# Altium integrated library NSC Amplifier.IntLib: 1615 symbols (part 40 of 44)
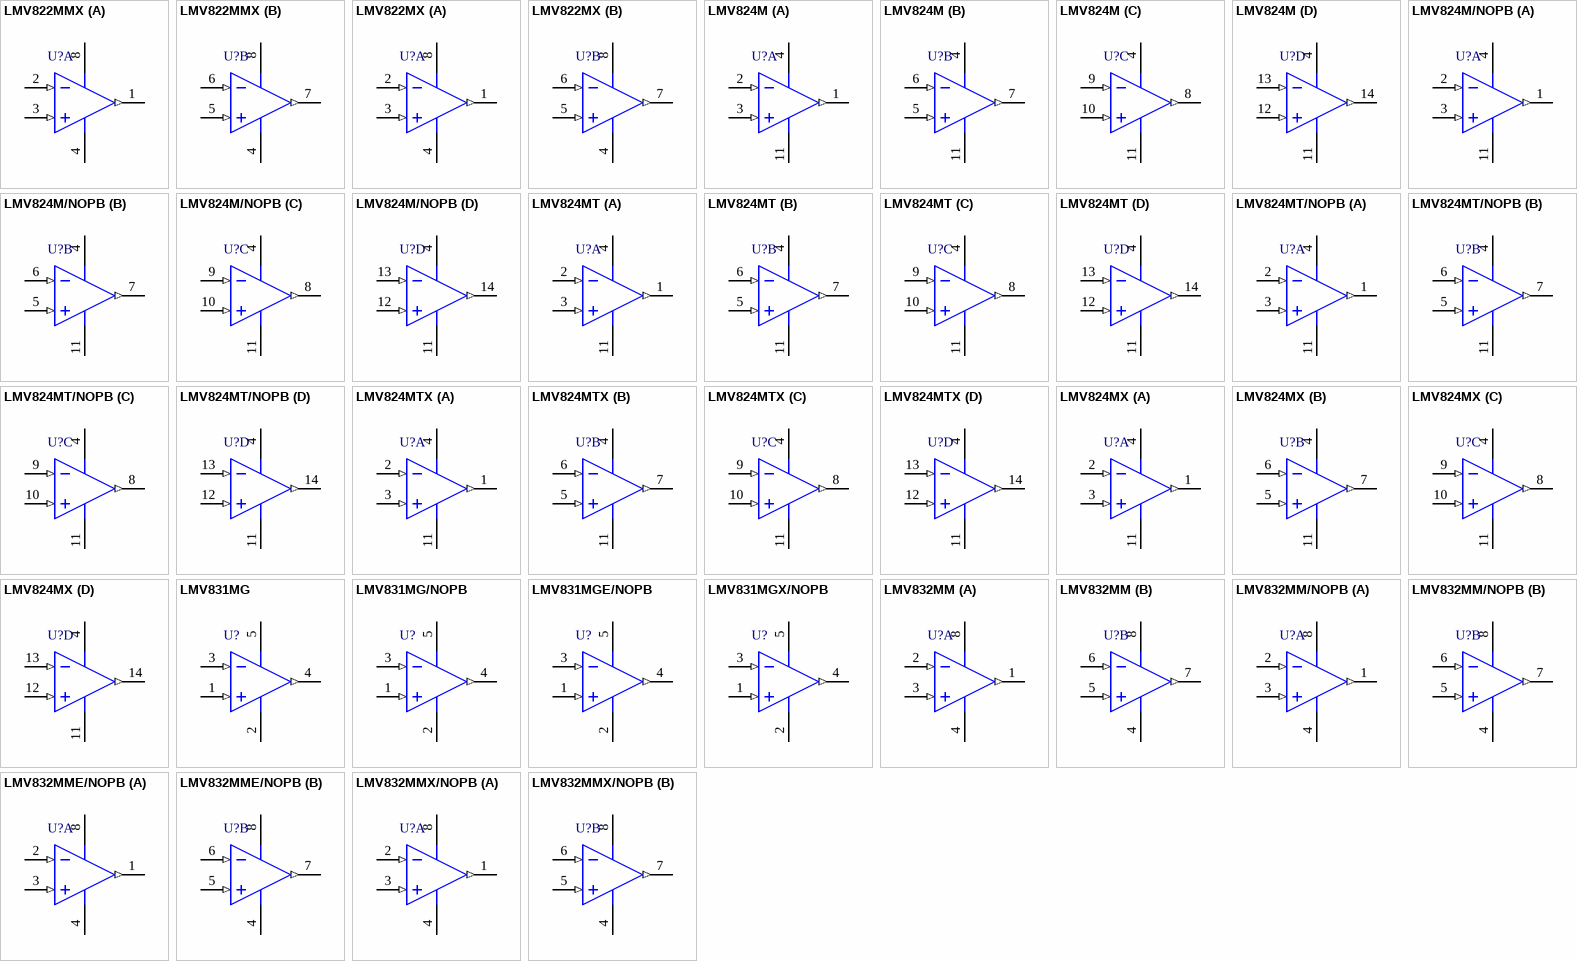
[diagram p121: symbols LMV822MMX to LMV832MMX/NOPB]

## LMV831MG
designator U?
Single 3.3 MHz Low Power CMOS, EMI Hardened Operational Amplifier, 5-pin SC-70; PartNumber: LMV831; Manufacturer: National Semiconductor; PackageTopMarking: AFA*XTT; PowerWise: Y; CompType: Amplifiers; Published: 4-Dec-2008; DatasheetVersion: Oct-2008; PackageVersion: revD, Jun-2007; PackageReference: MAA05A; Publisher: Altium Limited; PackageDescription: Molded SC-70, 2 x 1.25 x .9mm, 5 Lead, 0.65mm Pitch; Supplier 1: Farnell; Supplier Part Number 1: 1667426; RoHS: Y; PinCount: 5; Code_JEITA: SC-88A; Code_JEDEC: MO-203-AA; Code_IPC: SOT353-5; ComponentLink1Description: LMV831 Datasheet; ComponentLink1URL: http://www.national.com/ds/LM/LMV831.pdf; ComponentLink2Description: LMV831 Web Page; ComponentLink2URL: http://www.national.com/pf/LM/LMV831.html; ComponentLink3Description: MAA05A Package Page; ComponentLink3URL: http://www.national.com/packaging/folders/maa05a.html
footprint MAA05A_N (SOT353, 5-Leads, Body 2x1.3mm, Pitch 0.65mm, Lead Span 2.1mm, IPC Medium Density)
footprint MAA05A_L (SOT353, 5-Leads, Body 2x1.3mm, Pitch 0.65mm, Lead Span 2.1mm, IPC High Density)
footprint MAA05A_M (SOT353, 5-Leads, Body 2x1.3mm, Pitch 0.65mm, Lead Span 2.1mm, IPC Low Density)
pins: 1 IN+ (in), 2 V- (power), 3 IN- (in), 4 OUT (out), 5 V+ (power)

## LMV831MG/NOPB
designator U?
Single 3.3 MHz Low Power CMOS, EMI Hardened Operational Amplifier, 5-pin SC-70, Pb-Free; PartNumber: LMV831MG/NOPB; Manufacturer: National Semiconductor; PackageTopMarking: AFA*XTT; PowerWise: Y; CompType: Amplifiers; Published: 1-Mar-2010; DatasheetVersion: Oct-2008; PackageVersion: revD, Jun-2007; PackageReference: MAA05A; Publisher: Altium Limited; PackageDescription: Molded SC-70, 2 x 1.25 x .9mm, 5 Lead, 0.65mm Pitch; Supplier 1: Digi-Key; Supplier Part Number 1: LMV831MG-ND; RoHS: Y; PinCount: 5; Code_JEITA: SC-88A; Code_JEDEC: MO-203-AA; Code_IPC: SOT353-5; ComponentLink1Description: LMV831 Datasheet; ComponentLink1URL: http://www.national.com/ds/LM/LMV831.pdf; ComponentLink2Description: LMV831 Web Page; ComponentLink2URL: http://www.national.com/pf/LM/LMV831.html; ComponentLink3Description: MAA05A Package Page; ComponentLink3URL: http://www.national.com/packaging/folders/maa05a.html
footprint MAA05A_N (SOT353, 5-Leads, Body 2x1.3mm, Pitch 0.65mm, Lead Span 2.1mm, IPC Medium Density)
footprint MAA05A_L (SOT353, 5-Leads, Body 2x1.3mm, Pitch 0.65mm, Lead Span 2.1mm, IPC High Density)
footprint MAA05A_M (SOT353, 5-Leads, Body 2x1.3mm, Pitch 0.65mm, Lead Span 2.1mm, IPC Low Density)
simulation model LMV831 (SUBCKT)
pins: 1 IN+ (in), 2 V- (power), 3 IN- (in), 4 OUT (out), 5 V+ (power)

## LMV831MGE/NOPB
designator U?
Single 3.3 MHz Low Power CMOS, EMI Hardened Operational Amplifier, 5-pin SC-70, Pb-Free; PartNumber: LMV831MGE/NOPB; Manufacturer: National Semiconductor; PackageTopMarking: AFA*XTT; PowerWise: Y; CompType: Amplifiers; Published: 1-Mar-2010; DatasheetVersion: Oct-2008; PackageVersion: revD, Jun-2007; PackageReference: MAA05A; Publisher: Altium Limited; PackageDescription: Molded SC-70, 2 x 1.25 x .9mm, 5 Lead, 0.65mm Pitch; Supplier 1: Digi-Key; Supplier Part Number 1: LMV831MGETR-ND; Supplier 2: Digi-Key; Supplier Part Number 2: LMV831MGECT-ND; Supplier 3: Digi-Key; Supplier Part Number 3: LMV831MGEDKR-ND; Supplier 4: Farnell; Supplier Part Number 4: 1685415; RoHS: Y; PinCount: 5; Code_JEITA: SC-88A; Code_JEDEC: MO-203-AA; Code_IPC: SOT353-5; ComponentLink1Description: LMV831 Datasheet; ComponentLink1URL: http://www.national.com/ds/LM/LMV831.pdf; ComponentLink2Description: LMV831 Web Page; ComponentLink2URL: http://www.national.com/pf/LM/LMV831.html; ComponentLink3Description: MAA05A Package Page; ComponentLink3URL: http://www.national.com/packaging/folders/maa05a.html
footprint MAA05A_N (SOT353, 5-Leads, Body 2x1.3mm, Pitch 0.65mm, Lead Span 2.1mm, IPC Medium Density)
footprint MAA05A_L (SOT353, 5-Leads, Body 2x1.3mm, Pitch 0.65mm, Lead Span 2.1mm, IPC High Density)
footprint MAA05A_M (SOT353, 5-Leads, Body 2x1.3mm, Pitch 0.65mm, Lead Span 2.1mm, IPC Low Density)
simulation model LMV831 (SUBCKT)
pins: 1 IN+ (in), 2 V- (power), 3 IN- (in), 4 OUT (out), 5 V+ (power)

## LMV831MGX/NOPB
designator U?
Single 3.3 MHz Low Power CMOS, EMI Hardened Operational Amplifier, 5-pin SC-70, Pb-Free; PartNumber: LMV831MGX/NOPB; Manufacturer: National Semiconductor; PackageTopMarking: AFA*XTT; PowerWise: Y; CompType: Amplifiers; Published: 1-Mar-2010; DatasheetVersion: Oct-2008; PackageVersion: revD, Jun-2007; PackageReference: MAA05A; Publisher: Altium Limited; PackageDescription: Molded SC-70, 2 x 1.25 x .9mm, 5 Lead, 0.65mm Pitch; Supplier 1: Digi-Key; Supplier Part Number 1: LMV831MGX-ND; RoHS: Y; PinCount: 5; Code_JEITA: SC-88A; Code_JEDEC: MO-203-AA; Code_IPC: SOT353-5; ComponentLink1Description: LMV831 Datasheet; ComponentLink1URL: http://www.national.com/ds/LM/LMV831.pdf; ComponentLink2Description: LMV831 Web Page; ComponentLink2URL: http://www.national.com/pf/LM/LMV831.html; ComponentLink3Description: MAA05A Package Page; ComponentLink3URL: http://www.national.com/packaging/folders/maa05a.html
footprint MAA05A_N (SOT353, 5-Leads, Body 2x1.3mm, Pitch 0.65mm, Lead Span 2.1mm, IPC Medium Density)
footprint MAA05A_L (SOT353, 5-Leads, Body 2x1.3mm, Pitch 0.65mm, Lead Span 2.1mm, IPC High Density)
footprint MAA05A_M (SOT353, 5-Leads, Body 2x1.3mm, Pitch 0.65mm, Lead Span 2.1mm, IPC Low Density)
simulation model LMV831 (SUBCKT)
pins: 1 IN+ (in), 2 V- (power), 3 IN- (in), 4 OUT (out), 5 V+ (power)

## LMV832MM
designator U?
Dual 3.3 MHz Low Power CMOS, EMI Hardened Operational Amplifier, 8-pin Mini SOIC; PartNumber: LMV832; Manufacturer: National Semiconductor; PackageTopMarking: ZXTT*AU5A; PowerWise: Y; CompType: Amplifiers; Published: 4-Dec-2008; DatasheetVersion: Oct-2008; PackageVersion: revF, Apr-2008; PackageReference: MUA08A; Publisher: Altium Limited; PackageDescription: MINI SOIC, .118 x .118 x .034in, 8 Lead, .0256in Pitch; Supplier 1: Farnell; Supplier Part Number 1: 1667429; RoHS: Y; PinCount: 8; Code_JEDEC: MO-187-AA; ComponentLink1Description: LMV832 Datasheet; ComponentLink1URL: http://www.national.com/ds/LM/LMV832.pdf; ComponentLink2Description: LMV832 Web Page; ComponentLink2URL: http://www.national.com/pf/LM/LMV832.html; ComponentLink3Description: MUA08A Package Page; ComponentLink3URL: http://www.national.com/packaging/folders/mua08a.html
footprint MUA08A_N (TSOP, 8-Leads, Body 3x3mm, Pitch 0.65mm, IPC Medium Density)
footprint MUA08A_L (TSOP, 8-Leads, Body 3x3mm, Pitch 0.65mm, IPC High Density)
footprint MUA08A_M (TSOP, 8-Leads, Body 3x3mm, Pitch 0.65mm, IPC Low Density)
pins on every part: 4 V- (power), 8 V+ (power)
part A pins: 1 OUTA (out), 2 INA- (in), 3 INA+ (in)
part B pins: 5 INB+ (in), 6 INB- (in), 7 OUTB (out)

## LMV832MM/NOPB
designator U?
Dual 3.3 MHz Low Power CMOS, EMI Hardened Operational Amplifier, 8-pin Mini SOIC, Pb-Free; PartNumber: LMV832MM/NOPB; Manufacturer: National Semiconductor; PackageTopMarking: ZXTT*AU5A; PowerWise: Y; CompType: Amplifiers; Published: 1-Mar-2010; DatasheetVersion: Oct-2008; PackageVersion: revF, Apr-2008; PackageReference: MUA08A; Publisher: Altium Limited; PackageDescription: MINI SOIC, .118 x .118 x .034in, 8 Lead, .0256in Pitch; Supplier 1: Digi-Key; Supplier Part Number 1: LMV832MM-ND; RoHS: Y; PinCount: 8; Code_JEDEC: MO-187-AA; ComponentLink1Description: LMV832 Datasheet; ComponentLink1URL: http://www.national.com/ds/LM/LMV832.pdf; ComponentLink2Description: LMV832 Web Page; ComponentLink2URL: http://www.national.com/pf/LM/LMV832.html; ComponentLink3Description: MUA08A Package Page; ComponentLink3URL: http://www.national.com/packaging/folders/mua08a.html
footprint MUA08A_N (TSOP, 8-Leads, Body 3x3mm, Pitch 0.65mm, IPC Medium Density)
footprint MUA08A_L (TSOP, 8-Leads, Body 3x3mm, Pitch 0.65mm, IPC High Density)
footprint MUA08A_M (TSOP, 8-Leads, Body 3x3mm, Pitch 0.65mm, IPC Low Density)
simulation model LMV832 (SUBCKT)
pins on every part: 4 V- (power), 8 V+ (power)
part A pins: 1 OUTA (out), 2 INA- (in), 3 INA+ (in)
part B pins: 5 INB+ (in), 6 INB- (in), 7 OUTB (out)

## LMV832MME/NOPB
designator U?
Dual 3.3 MHz Low Power CMOS, EMI Hardened Operational Amplifier, 8-pin Mini SOIC, Pb-Free; PartNumber: LMV832MME/NOPB; Manufacturer: National Semiconductor; PackageTopMarking: ZXTT*AU5A; PowerWise: Y; CompType: Amplifiers; Published: 1-Mar-2010; DatasheetVersion: Oct-2008; PackageVersion: revF, Apr-2008; PackageReference: MUA08A; Publisher: Altium Limited; PackageDescription: MINI SOIC, .118 x .118 x .034in, 8 Lead, .0256in Pitch; Supplier 1: Digi-Key; Supplier Part Number 1: LMV832MMETR-ND; Supplier 2: Digi-Key; Supplier Part Number 2: LMV832MMECT-ND; Supplier 3: Digi-Key; Supplier Part Number 3: LMV832MMEDKR-ND; RoHS: Y; PinCount: 8; Code_JEDEC: MO-187-AA; ComponentLink1Description: LMV832 Datasheet; ComponentLink1URL: http://www.national.com/ds/LM/LMV832.pdf; ComponentLink2Description: LMV832 Web Page; ComponentLink2URL: http://www.national.com/pf/LM/LMV832.html; ComponentLink3Description: MUA08A Package Page; ComponentLink3URL: http://www.national.com/packaging/folders/mua08a.html
footprint MUA08A_N (TSOP, 8-Leads, Body 3x3mm, Pitch 0.65mm, IPC Medium Density)
footprint MUA08A_L (TSOP, 8-Leads, Body 3x3mm, Pitch 0.65mm, IPC High Density)
footprint MUA08A_M (TSOP, 8-Leads, Body 3x3mm, Pitch 0.65mm, IPC Low Density)
simulation model LMV832 (SUBCKT)
pins on every part: 4 V- (power), 8 V+ (power)
part A pins: 1 OUTA (out), 2 INA- (in), 3 INA+ (in)
part B pins: 5 INB+ (in), 6 INB- (in), 7 OUTB (out)

## LMV832MMX/NOPB
designator U?
Dual 3.3 MHz Low Power CMOS, EMI Hardened Operational Amplifier, 8-pin Mini SOIC, Pb-Free; PartNumber: LMV832MMX/NOPB; Manufacturer: National Semiconductor; PackageTopMarking: ZXTT*AU5A; PowerWise: Y; CompType: Amplifiers; Published: 1-Mar-2010; DatasheetVersion: Oct-2008; PackageVersion: revF, Apr-2008; PackageReference: MUA08A; Publisher: Altium Limited; PackageDescription: MINI SOIC, .118 x .118 x .034in, 8 Lead, .0256in Pitch; Supplier 1: Digi-Key; Supplier Part Number 1: LMV832MMX-ND; RoHS: Y; PinCount: 8; Code_JEDEC: MO-187-AA; ComponentLink1Description: LMV832 Datasheet; ComponentLink1URL: http://www.national.com/ds/LM/LMV832.pdf; ComponentLink2Description: LMV832 Web Page; ComponentLink2URL: http://www.national.com/pf/LM/LMV832.html; ComponentLink3Description: MUA08A Package Page; ComponentLink3URL: http://www.national.com/packaging/folders/mua08a.html
footprint MUA08A_N (TSOP, 8-Leads, Body 3x3mm, Pitch 0.65mm, IPC Medium Density)
footprint MUA08A_L (TSOP, 8-Leads, Body 3x3mm, Pitch 0.65mm, IPC High Density)
footprint MUA08A_M (TSOP, 8-Leads, Body 3x3mm, Pitch 0.65mm, IPC Low Density)
simulation model LMV832 (SUBCKT)
pins on every part: 4 V- (power), 8 V+ (power)
part A pins: 1 OUTA (out), 2 INA- (in), 3 INA+ (in)
part B pins: 5 INB+ (in), 6 INB- (in), 7 OUTB (out)

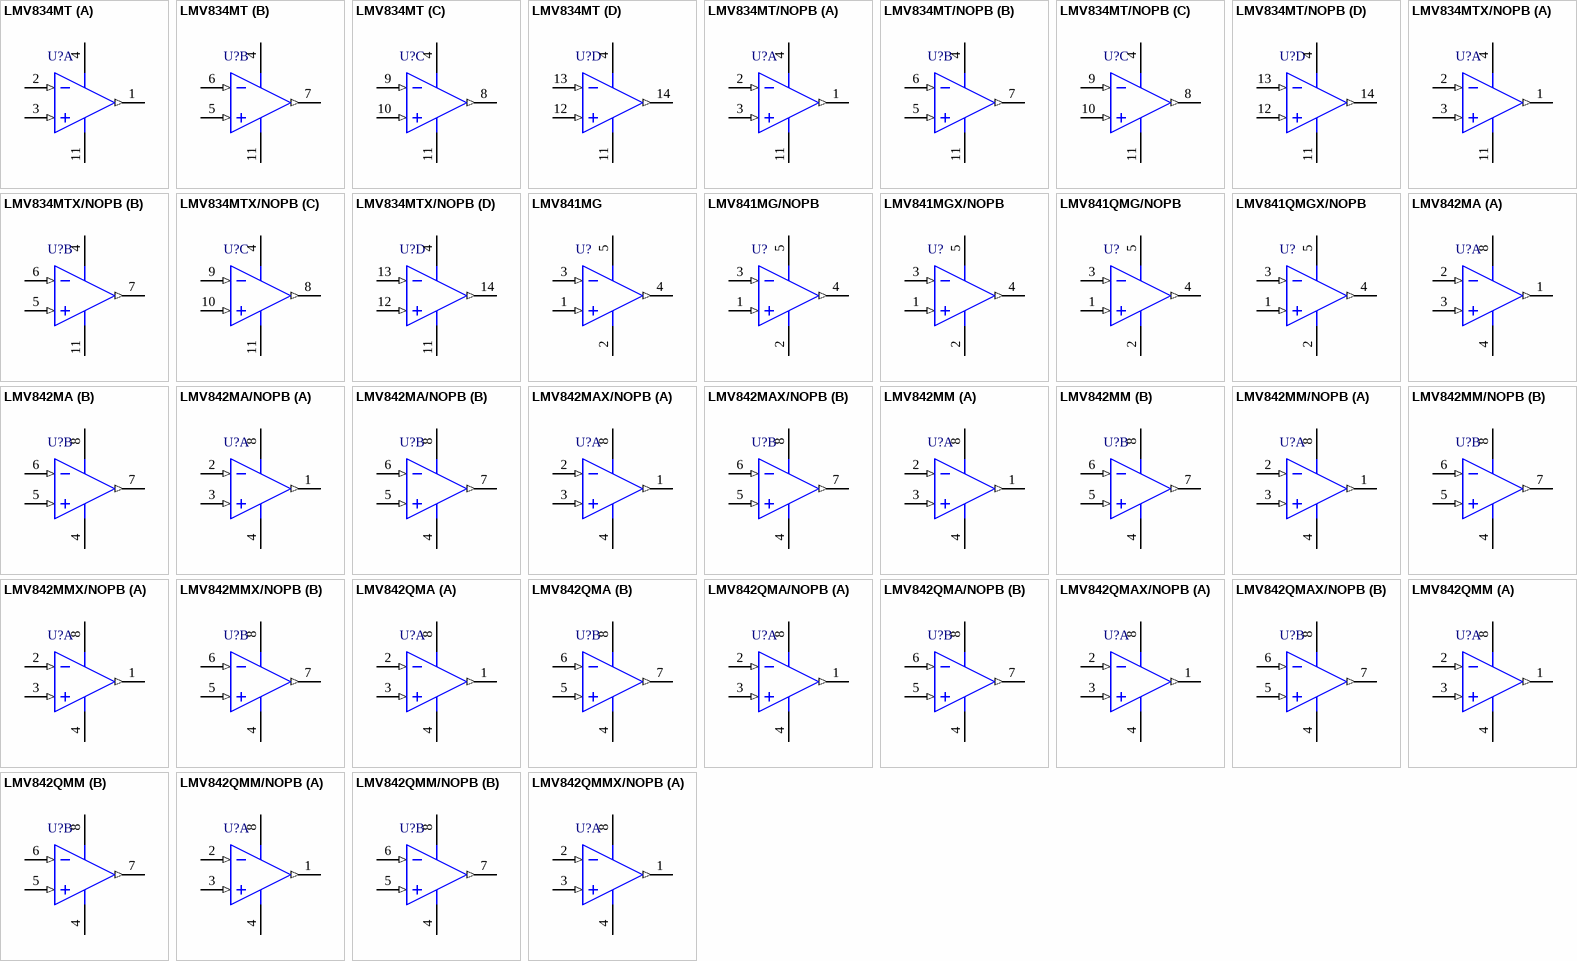
[diagram p74: symbols LMV834MT to LMV842QMMX/NOPB]

## LMV834MT
designator U?
Quad 3.3 MHz Low Power CMOS, EMI Hardened Operational Amplifier, 14-pin TSSOP; PartNumber: LMV834; Manufacturer: National Semiconductor; PackageTopMarking: NSUZXYTT*LMV834*MT; PowerWise: Y; CompType: Amplifiers; Published: 4-Dec-2008; DatasheetVersion: Oct-2008; PackageVersion: revD, Jun-2003; PackageReference: MTC14; Publisher: Altium Limited; PackageDescription: Molded TSSOP, JEDEC, 5 x 4.4 x 0.9mm Body, 14 Lead, 0.65mm Pitch; Supplier 1: Farnell; Supplier Part Number 1: 1679690; RoHS: Y; PinCount: 14; Code_JEDEC: MO-153-AB-1; ComponentLink1Description: LMV834 Datasheet; ComponentLink1URL: http://www.national.com/ds/LM/LMV834.pdf; ComponentLink2Description: LMV834 Web Page; ComponentLink2URL: http://www.national.com/pf/LM/LMV834.html; ComponentLink3Description: MTC14 Package Page; ComponentLink3URL: http://www.national.com/packaging/folders/mtc14.html
footprint MTC14_N (TSOP, 14-Leads, Body 5x4.4mm, Pitch 0.65mm, IPC Medium Density)
footprint MTC14_L (TSOP, 14-Leads, Body 5x4.4mm, Pitch 0.65mm, IPC High Density)
footprint MTC14_M (TSOP, 14-Leads, Body 5x4.4mm, Pitch 0.65mm, IPC Low Density)
pins on every part: 4 V+ (power), 11 V- (power)
part A pins: 1 OUTA (out), 2 INA- (in), 3 INA+ (in)
part B pins: 5 INB+ (in), 6 INB- (in), 7 OUTB (out)
part C pins: 8 OUTC (out), 9 INC- (in), 10 INC+ (in)
part D pins: 12 IND+ (in), 13 IND- (in), 14 OUTD (out)

## LMV834MT/NOPB
designator U?
Quad 3.3 MHz Low Power CMOS, EMI Hardened Operational Amplifier, 14-pin TSSOP, Pb-Free; PartNumber: LMV834MT/NOPB; Manufacturer: National Semiconductor; PackageTopMarking: NSUZXYTT*LMV834*MT; PowerWise: Y; CompType: Amplifiers; Published: 1-Mar-2010; DatasheetVersion: Oct-2008; PackageVersion: revD, Jun-2003; PackageReference: MTC14; Publisher: Altium Limited; PackageDescription: Molded TSSOP, JEDEC, 5 x 4.4 x 0.9mm Body, 14 Lead, 0.65mm Pitch; Supplier 1: Digi-Key; Supplier Part Number 1: LMV834MT-ND; RoHS: Y; PinCount: 14; Code_JEDEC: MO-153-AB-1; ComponentLink1Description: LMV834 Datasheet; ComponentLink1URL: http://www.national.com/ds/LM/LMV834.pdf; ComponentLink2Description: LMV834 Web Page; ComponentLink2URL: http://www.national.com/pf/LM/LMV834.html; ComponentLink3Description: MTC14 Package Page; ComponentLink3URL: http://www.national.com/packaging/folders/mtc14.html
footprint MTC14_N (TSOP, 14-Leads, Body 5x4.4mm, Pitch 0.65mm, IPC Medium Density)
footprint MTC14_L (TSOP, 14-Leads, Body 5x4.4mm, Pitch 0.65mm, IPC High Density)
footprint MTC14_M (TSOP, 14-Leads, Body 5x4.4mm, Pitch 0.65mm, IPC Low Density)
simulation model LMV834 (SUBCKT)
pins on every part: 4 V+ (power), 11 V- (power)
part A pins: 1 OUTA (out), 2 INA- (in), 3 INA+ (in)
part B pins: 5 INB+ (in), 6 INB- (in), 7 OUTB (out)
part C pins: 8 OUTC (out), 9 INC- (in), 10 INC+ (in)
part D pins: 12 IND+ (in), 13 IND- (in), 14 OUTD (out)

## LMV834MTX/NOPB
designator U?
Quad 3.3 MHz Low Power CMOS, EMI Hardened Operational Amplifier, 14-pin TSSOP, Pb-Free; PartNumber: LMV834MTX/NOPB; Manufacturer: National Semiconductor; PackageTopMarking: NSUZXYTT*LMV834*MT; PowerWise: Y; CompType: Amplifiers; Published: 1-Mar-2010; DatasheetVersion: Oct-2008; PackageVersion: revD, Jun-2003; PackageReference: MTC14; Publisher: Altium Limited; PackageDescription: Molded TSSOP, JEDEC, 5 x 4.4 x 0.9mm Body, 14 Lead, 0.65mm Pitch; Supplier 1: Digi-Key; Supplier Part Number 1: LMV834MTX-ND; RoHS: Y; PinCount: 14; Code_JEDEC: MO-153-AB-1; ComponentLink1Description: LMV834 Datasheet; ComponentLink1URL: http://www.national.com/ds/LM/LMV834.pdf; ComponentLink2Description: LMV834 Web Page; ComponentLink2URL: http://www.national.com/pf/LM/LMV834.html; ComponentLink3Description: MTC14 Package Page; ComponentLink3URL: http://www.national.com/packaging/folders/mtc14.html
footprint MTC14_N (TSOP, 14-Leads, Body 5x4.4mm, Pitch 0.65mm, IPC Medium Density)
footprint MTC14_L (TSOP, 14-Leads, Body 5x4.4mm, Pitch 0.65mm, IPC High Density)
footprint MTC14_M (TSOP, 14-Leads, Body 5x4.4mm, Pitch 0.65mm, IPC Low Density)
simulation model LMV834 (SUBCKT)
pins on every part: 4 V+ (power), 11 V- (power)
part A pins: 1 OUTA (out), 2 INA- (in), 3 INA+ (in)
part B pins: 5 INB+ (in), 6 INB- (in), 7 OUTB (out)
part C pins: 8 OUTC (out), 9 INC- (in), 10 INC+ (in)
part D pins: 12 IND+ (in), 13 IND- (in), 14 OUTD (out)

## LMV841MG
designator U?
Single CMOS Input, RRIO, Wide Supply Range Operational Amplifiers, 5-pin SC-70; PartNumber: LMV841MG; Manufacturer: National Semiconductor; PackageTopMarking: A97*XTT; PowerWise: N; Published: 4-Dec-2008; LatestRevisionDate: 13-Jan-2009; LatestRevisionNote: Sim Model Added.; DatasheetVersion: Oct-2009; PackageVersion: revD, Jun-2007; PackageReference: MAA05A; Publisher: Altium Limited; PackageDescription: Molded SC-70, 2 x 1.25 x .9mm, 5 Lead, 0.65mm Pitch; Supplier 1: Farnell; Supplier Part Number 1: 1320980; RoHS: Y; PinCount: 5; CompType: Amplifiers; Code_JEITA: SC-88A; Code_JEDEC: MO-203-AA; Code_IPC: SOT353-5; ComponentLink1Description: LMV841 Datasheet; ComponentLink1URL: http://www.national.com/ds/LM/LMV841.pdf; ComponentLink2Description: LMV841 Web Page; ComponentLink2URL: http://www.national.com/pf/LM/LMV841.html; ComponentLink3Description: MAA05A Package Page; ComponentLink3URL: http://www.national.com/packaging/folders/maa05a.html
footprint MAA05A_N (SOT353, 5-Leads, Body 2x1.3mm, Pitch 0.65mm, Lead Span 2.1mm, IPC Medium Density)
footprint MAA05A_L (SOT353, 5-Leads, Body 2x1.3mm, Pitch 0.65mm, Lead Span 2.1mm, IPC High Density)
footprint MAA05A_M (SOT353, 5-Leads, Body 2x1.3mm, Pitch 0.65mm, Lead Span 2.1mm, IPC Low Density)
simulation model LMV841 (SUBCKT)
pins: 1 IN+ (in), 2 V- (power), 3 IN- (in), 4 OUT (out), 5 V+ (power)

## LMV841MG/NOPB
designator U?
CMOS Input, RRIO, Wide Supply Range Operational Amplifiers, 5-pin SC-70, Pb-Free; PartNumber: LMV841MG/NOPB; Manufacturer: National Semiconductor; PackageTopMarking: A97*XTT; PowerWise: N; Published: 1-Mar-2010; DatasheetVersion: Oct-2009; PackageVersion: revD, Jun-2007; PackageReference: MAA05A; Publisher: Altium Limited; PackageDescription: Molded SC-70, 2 x 1.25 x .9mm, 5 Lead, 0.65mm Pitch; Supplier 1: Digi-Key; Supplier Part Number 1: LMV841MGTR-ND; Supplier 2: Digi-Key; Supplier Part Number 2: LMV841MGCT-ND; Supplier 3: Digi-Key; Supplier Part Number 3: LMV841MGDKR-ND; Supplier 4: Farnell; Supplier Part Number 4: 1564782; RoHS: Y; PinCount: 5; CompType: Amplifiers; Code_JEITA: SC-88A; Code_JEDEC: MO-203-AA; Code_IPC: SOT353-5; ComponentLink1Description: LMV841 Datasheet; ComponentLink1URL: http://www.national.com/ds/LM/LMV841.pdf; ComponentLink2Description: LMV841 Web Page; ComponentLink2URL: http://www.national.com/pf/LM/LMV841.html; ComponentLink3Description: MAA05A Package Page; ComponentLink3URL: http://www.national.com/packaging/folders/maa05a.html
footprint MAA05A_N (SOT353, 5-Leads, Body 2x1.3mm, Pitch 0.65mm, Lead Span 2.1mm, IPC Medium Density)
footprint MAA05A_L (SOT353, 5-Leads, Body 2x1.3mm, Pitch 0.65mm, Lead Span 2.1mm, IPC High Density)
footprint MAA05A_M (SOT353, 5-Leads, Body 2x1.3mm, Pitch 0.65mm, Lead Span 2.1mm, IPC Low Density)
simulation model LMV841 (SUBCKT)
pins: 1 IN+ (in), 2 V- (power), 3 IN- (in), 4 OUT (out), 5 V+ (power)

## LMV841MGX/NOPB
designator U?
CMOS Input, RRIO, Wide Supply Range Operational Amplifiers, 5-pin SC-70, Pb-Free; PartNumber: LMV841MGX/NOPB; Manufacturer: National Semiconductor; PackageTopMarking: A97*XTT; PowerWise: N; Published: 1-Mar-2010; DatasheetVersion: Oct-2009; PackageVersion: revD, Jun-2007; PackageReference: MAA05A; Publisher: Altium Limited; PackageDescription: Molded SC-70, 2 x 1.25 x .9mm, 5 Lead, 0.65mm Pitch; Supplier 1: Digi-Key; Supplier Part Number 1: LMV841MGX-ND; RoHS: Y; PinCount: 5; CompType: Amplifiers; Code_JEITA: SC-88A; Code_JEDEC: MO-203-AA; Code_IPC: SOT353-5; ComponentLink1Description: LMV841 Datasheet; ComponentLink1URL: http://www.national.com/ds/LM/LMV841.pdf; ComponentLink2Description: LMV841 Web Page; ComponentLink2URL: http://www.national.com/pf/LM/LMV841.html; ComponentLink3Description: MAA05A Package Page; ComponentLink3URL: http://www.national.com/packaging/folders/maa05a.html
footprint MAA05A_N (SOT353, 5-Leads, Body 2x1.3mm, Pitch 0.65mm, Lead Span 2.1mm, IPC Medium Density)
footprint MAA05A_L (SOT353, 5-Leads, Body 2x1.3mm, Pitch 0.65mm, Lead Span 2.1mm, IPC High Density)
footprint MAA05A_M (SOT353, 5-Leads, Body 2x1.3mm, Pitch 0.65mm, Lead Span 2.1mm, IPC Low Density)
simulation model LMV841 (SUBCKT)
pins: 1 IN+ (in), 2 V- (power), 3 IN- (in), 4 OUT (out), 5 V+ (power)

## LMV841QMG/NOPB
designator U?
CMOS Input, RRIO, Wide Supply Range Operational Amplifiers, 5-pin SC-70, Pb-Free; PartNumber: LMV841QMG/NOPB; Manufacturer: National Semiconductor; PackageTopMarking: ATA*XTT; PowerWise: N; Published: 1-Mar-2010; DatasheetVersion: Oct-2009; PackageVersion: revD, Jun-2007; PackageReference: MAA05A; Publisher: Altium Limited; PackageDescription: Molded SC-70, 2 x 1.25 x .9mm, 5 Lead, 0.65mm Pitch; Supplier 1: Digi-Key; Supplier Part Number 1: LMV841QMGTR-ND; Supplier 2: Digi-Key; Supplier Part Number 2: LMV841QMGCT-ND; Supplier 3: Digi-Key; Supplier Part Number 3: LMV841QMGDKR-ND; RoHS: Y; PinCount: 5; CompType: Amplifiers; Code_JEITA: SC-88A; Code_JEDEC: MO-203-AA; Code_IPC: SOT353-5; ComponentLink1Description: LMV841 Datasheet; ComponentLink1URL: http://www.national.com/ds/LM/LMV841.pdf; ComponentLink2Description: LMV841 Web Page; ComponentLink2URL: http://www.national.com/pf/LM/LMV841.html; ComponentLink3Description: MAA05A Package Page; ComponentLink3URL: http://www.national.com/packaging/folders/maa05a.html
footprint MAA05A_N (SOT353, 5-Leads, Body 2x1.3mm, Pitch 0.65mm, Lead Span 2.1mm, IPC Medium Density)
footprint MAA05A_L (SOT353, 5-Leads, Body 2x1.3mm, Pitch 0.65mm, Lead Span 2.1mm, IPC High Density)
footprint MAA05A_M (SOT353, 5-Leads, Body 2x1.3mm, Pitch 0.65mm, Lead Span 2.1mm, IPC Low Density)
simulation model LMV841 (SUBCKT)
pins: 1 IN+ (in), 2 V- (power), 3 IN- (in), 4 OUT (out), 5 V+ (power)

## LMV841QMGX/NOPB
designator U?
CMOS Input, RRIO, Wide Supply Range Operational Amplifiers, 5-pin SC-70, Pb-Free; PartNumber: LMV841QMGX/NOPB; Manufacturer: National Semiconductor; PackageTopMarking: ATA*XTT; PowerWise: N; Published: 1-Mar-2010; DatasheetVersion: Oct-2009; PackageVersion: revD, Jun-2007; PackageReference: MAA05A; Publisher: Altium Limited; PackageDescription: Molded SC-70, 2 x 1.25 x .9mm, 5 Lead, 0.65mm Pitch; Supplier 1: Digi-Key; Supplier Part Number 1: LMV841QMGX-ND; RoHS: Y; PinCount: 5; CompType: Amplifiers; Code_JEITA: SC-88A; Code_JEDEC: MO-203-AA; Code_IPC: SOT353-5; ComponentLink1Description: LMV841 Datasheet; ComponentLink1URL: http://www.national.com/ds/LM/LMV841.pdf; ComponentLink2Description: LMV841 Web Page; ComponentLink2URL: http://www.national.com/pf/LM/LMV841.html; ComponentLink3Description: MAA05A Package Page; ComponentLink3URL: http://www.national.com/packaging/folders/maa05a.html
footprint MAA05A_N (SOT353, 5-Leads, Body 2x1.3mm, Pitch 0.65mm, Lead Span 2.1mm, IPC Medium Density)
footprint MAA05A_L (SOT353, 5-Leads, Body 2x1.3mm, Pitch 0.65mm, Lead Span 2.1mm, IPC High Density)
footprint MAA05A_M (SOT353, 5-Leads, Body 2x1.3mm, Pitch 0.65mm, Lead Span 2.1mm, IPC Low Density)
simulation model LMV841 (SUBCKT)
pins: 1 IN+ (in), 2 V- (power), 3 IN- (in), 4 OUT (out), 5 V+ (power)

## LMV842MA
designator U?
Dual CMOS Input, RRIO, Wide Supply Range Quad Operational Amplifiers, 8-pin Narrow SOIC; PartNumber: LMV842MA; Manufacturer: National Semiconductor; PackageTopMarking: NSZXTT*LMV84*2MA; PowerWise: N; Published: 4-Dec-2008; LatestRevisionDate: 13-Jan-2009; LatestRevisionNote: Sim Model Added.; DatasheetVersion: Oct-2009; PackageVersion: revM, May-2009; PackageReference: M08A; Publisher: Altium Limited; PackageDescription: SOIC Narrow, 4.9 x 3.9 x 1.45mm, 8 Lead, 1.27mm Pitch; RoHS: Y; PinCount: 8; CompType: Amplifiers; Code_JEDEC: MS-012-AA; Code_IPC: SOIC127P600-8; ComponentLink1Description: LMV842 Datasheet; ComponentLink1URL: http://www.national.com/ds/LM/LMV842.pdf; ComponentLink2Description: LMV842 Web Page; ComponentLink2URL: http://www.national.com/pf/LM/LMV842.html; ComponentLink3Description: M08A Package Page; ComponentLink3URL: http://www.national.com/packaging/folders/m08a.html
footprint M08A_N (SOIC, 8-Leads, Body 4.9x3.9mm, Pitch 1.27mm, IPC Medium Density)
footprint M08A_L (SOIC, 8-Leads, Body 4.9x3.9mm, Pitch 1.27mm, IPC High Density)
footprint M08A_M (SOIC, 8-Leads, Body 4.9x3.9mm, Pitch 1.27mm, IPC Low Density)
simulation model LMV842 (SUBCKT)
pins on every part: 4 V- (power), 8 V+ (power)
part A pins: 1 OUTA (out), 2 INA- (in), 3 INA+ (in)
part B pins: 5 INB+ (in), 6 INB- (in), 7 OUTB (out)

## LMV842MA/NOPB
designator U?
Dual CMOS Input, RRIO, Wide Supply Range Quad Operational Amplifiers, 8-pin Narrow SOIC, Pb-Free; PartNumber: LMV842MA/NOPB; Manufacturer: National Semiconductor; PackageTopMarking: NSZXTT*LMV84*2MA; PowerWise: N; Published: 1-Mar-2010; DatasheetVersion: Oct-2009; PackageVersion: revM, May-2009; PackageReference: M08A; Publisher: Altium Limited; PackageDescription: SOIC Narrow, 4.9 x 3.9 x 1.45mm, 8 Lead, 1.27mm Pitch; Supplier 1: Digi-Key; Supplier Part Number 1: LMV842MA-ND; Supplier 2: Farnell; Supplier Part Number 2: 1694643; RoHS: Y; PinCount: 8; CompType: Amplifiers; Code_JEDEC: MS-012-AA; Code_IPC: SOIC127P600-8; ComponentLink1Description: LMV842 Datasheet; ComponentLink1URL: http://www.national.com/ds/LM/LMV842.pdf; ComponentLink2Description: LMV842 Web Page; ComponentLink2URL: http://www.national.com/pf/LM/LMV842.html; ComponentLink3Description: M08A Package Page; ComponentLink3URL: http://www.national.com/packaging/folders/m08a.html
footprint M08A_N (SOIC, 8-Leads, Body 4.9x3.9mm, Pitch 1.27mm, IPC Medium Density)
footprint M08A_L (SOIC, 8-Leads, Body 4.9x3.9mm, Pitch 1.27mm, IPC High Density)
footprint M08A_M (SOIC, 8-Leads, Body 4.9x3.9mm, Pitch 1.27mm, IPC Low Density)
simulation model LMV842 (SUBCKT)
pins on every part: 4 V- (power), 8 V+ (power)
part A pins: 1 OUTA (out), 2 INA- (in), 3 INA+ (in)
part B pins: 5 INB+ (in), 6 INB- (in), 7 OUTB (out)

## LMV842MAX/NOPB
designator U?
Dual CMOS Input, RRIO, Wide Supply Range Quad Operational Amplifiers, 8-pin Narrow SOIC, Pb-Free; PartNumber: LMV842MAX/NOPB; Manufacturer: National Semiconductor; PackageTopMarking: NSZXTT*LMV84*2MA; PowerWise: N; Published: 1-Mar-2010; DatasheetVersion: Oct-2009; PackageVersion: revM, May-2009; PackageReference: M08A; Publisher: Altium Limited; PackageDescription: SOIC Narrow, 4.9 x 3.9 x 1.45mm, 8 Lead, 1.27mm Pitch; Supplier 1: Digi-Key; Supplier Part Number 1: LMV842MAX-ND; RoHS: Y; PinCount: 8; CompType: Amplifiers; Code_JEDEC: MS-012-AA; Code_IPC: SOIC127P600-8; ComponentLink1Description: LMV842 Datasheet; ComponentLink1URL: http://www.national.com/ds/LM/LMV842.pdf; ComponentLink2Description: LMV842 Web Page; ComponentLink2URL: http://www.national.com/pf/LM/LMV842.html; ComponentLink3Description: M08A Package Page; ComponentLink3URL: http://www.national.com/packaging/folders/m08a.html
footprint M08A_N (SOIC, 8-Leads, Body 4.9x3.9mm, Pitch 1.27mm, IPC Medium Density)
footprint M08A_L (SOIC, 8-Leads, Body 4.9x3.9mm, Pitch 1.27mm, IPC High Density)
footprint M08A_M (SOIC, 8-Leads, Body 4.9x3.9mm, Pitch 1.27mm, IPC Low Density)
simulation model LMV842 (SUBCKT)
pins on every part: 4 V- (power), 8 V+ (power)
part A pins: 1 OUTA (out), 2 INA- (in), 3 INA+ (in)
part B pins: 5 INB+ (in), 6 INB- (in), 7 OUTB (out)

## LMV842MM
designator U?
Dual CMOS Input, RRIO, Wide Supply Range Quad Operational Amplifiers, 8-pin Mini SOIC; PartNumber: LMV842MM; Manufacturer: National Semiconductor; PackageTopMarking: ZXTT*AC4A; PowerWise: N; Published: 4-Dec-2008; LatestRevisionDate: 13-Jan-2009; LatestRevisionNote: Sim Model Added.; DatasheetVersion: Oct-2009; PackageVersion: revF, Apr-2008; PackageReference: MUA08A; Publisher: Altium Limited; PackageDescription: MINI SOIC, .118 x .118 x .034in, 8 Lead, .0256in Pitch; RoHS: Y; PinCount: 8; CompType: Amplifiers; Code_JEDEC: MO-187-AA; ComponentLink1Description: LMV842 Datasheet; ComponentLink1URL: http://www.national.com/ds/LM/LMV842.pdf; ComponentLink2Description: LMV842 Web Page; ComponentLink2URL: http://www.national.com/pf/LM/LMV842.html; ComponentLink3Description: MUA08A Package Page; ComponentLink3URL: http://www.national.com/packaging/folders/mua08a.html
footprint MUA08A_N (TSOP, 8-Leads, Body 3x3mm, Pitch 0.65mm, IPC Medium Density)
footprint MUA08A_L (TSOP, 8-Leads, Body 3x3mm, Pitch 0.65mm, IPC High Density)
footprint MUA08A_M (TSOP, 8-Leads, Body 3x3mm, Pitch 0.65mm, IPC Low Density)
simulation model LMV842 (SUBCKT)
pins on every part: 4 V- (power), 8 V+ (power)
part A pins: 1 OUTA (out), 2 INA- (in), 3 INA+ (in)
part B pins: 5 INB+ (in), 6 INB- (in), 7 OUTB (out)

## LMV842MM/NOPB
designator U?
Dual CMOS Input, RRIO, Wide Supply Range Quad Operational Amplifiers, 8-pin Mini SOIC, Pb-Free; PartNumber: LMV842MM/NOPB; Manufacturer: National Semiconductor; PackageTopMarking: ZXTT*AC4A; PowerWise: N; Published: 1-Mar-2010; DatasheetVersion: Oct-2009; PackageVersion: revF, Apr-2008; PackageReference: MUA08A; Publisher: Altium Limited; PackageDescription: MINI SOIC, .118 x .118 x .034in, 8 Lead, .0256in Pitch; Supplier 1: Digi-Key; Supplier Part Number 1: LMV842MMTR-ND; Supplier 2: Digi-Key; Supplier Part Number 2: LMV842MMCT-ND; Supplier 3: Digi-Key; Supplier Part Number 3: LMV842MMDKR-ND; Supplier 4: Farnell; Supplier Part Number 4: 1685352; RoHS: Y; PinCount: 8; CompType: Amplifiers; Code_JEDEC: MO-187-AA; ComponentLink1Description: LMV842 Datasheet; ComponentLink1URL: http://www.national.com/ds/LM/LMV842.pdf; ComponentLink2Description: LMV842 Web Page; ComponentLink2URL: http://www.national.com/pf/LM/LMV842.html; ComponentLink3Description: MUA08A Package Page; ComponentLink3URL: http://www.national.com/packaging/folders/mua08a.html
footprint MUA08A_N (TSOP, 8-Leads, Body 3x3mm, Pitch 0.65mm, IPC Medium Density)
footprint MUA08A_L (TSOP, 8-Leads, Body 3x3mm, Pitch 0.65mm, IPC High Density)
footprint MUA08A_M (TSOP, 8-Leads, Body 3x3mm, Pitch 0.65mm, IPC Low Density)
simulation model LMV842 (SUBCKT)
pins on every part: 4 V- (power), 8 V+ (power)
part A pins: 1 OUTA (out), 2 INA- (in), 3 INA+ (in)
part B pins: 5 INB+ (in), 6 INB- (in), 7 OUTB (out)

## LMV842MMX/NOPB
designator U?
Dual CMOS Input, RRIO, Wide Supply Range Quad Operational Amplifiers, 8-pin Mini SOIC, Pb-Free; PartNumber: LMV842MMX/NOPB; Manufacturer: National Semiconductor; PackageTopMarking: ZXTT*AC4A; PowerWise: N; Published: 1-Mar-2010; DatasheetVersion: Oct-2009; PackageVersion: revF, Apr-2008; PackageReference: MUA08A; Publisher: Altium Limited; PackageDescription: MINI SOIC, .118 x .118 x .034in, 8 Lead, .0256in Pitch; Supplier 1: Digi-Key; Supplier Part Number 1: LMV842MMX-ND; RoHS: Y; PinCount: 8; CompType: Amplifiers; Code_JEDEC: MO-187-AA; ComponentLink1Description: LMV842 Datasheet; ComponentLink1URL: http://www.national.com/ds/LM/LMV842.pdf; ComponentLink2Description: LMV842 Web Page; ComponentLink2URL: http://www.national.com/pf/LM/LMV842.html; ComponentLink3Description: MUA08A Package Page; ComponentLink3URL: http://www.national.com/packaging/folders/mua08a.html
footprint MUA08A_N (TSOP, 8-Leads, Body 3x3mm, Pitch 0.65mm, IPC Medium Density)
footprint MUA08A_L (TSOP, 8-Leads, Body 3x3mm, Pitch 0.65mm, IPC High Density)
footprint MUA08A_M (TSOP, 8-Leads, Body 3x3mm, Pitch 0.65mm, IPC Low Density)
simulation model LMV842 (SUBCKT)
pins on every part: 4 V- (power), 8 V+ (power)
part A pins: 1 OUTA (out), 2 INA- (in), 3 INA+ (in)
part B pins: 5 INB+ (in), 6 INB- (in), 7 OUTB (out)

## LMV842QMA
designator U?
Dual CMOS Input, RRIO, Wide Supply Range Quad Operational Amplifiers, 8-pin Narrow SOIC; PartNumber: LMV842QMA; Manufacturer: National Semiconductor; PackageTopMarking: NSZXTT*LMV84*2QMA; PowerWise: N; Published: 9-Oct-2009; DatasheetVersion: Oct-2009; PackageVersion: revM, May-2009; PackageReference: M08A; Publisher: Altium Limited; PackageDescription: SOIC Narrow, 4.9 x 3.9 x 1.45mm, 8 Lead, 1.27mm Pitch; RoHS: Y; PinCount: 8; CompType: Amplifiers; Code_JEDEC: MS-012-AA; Code_IPC: SOIC127P600-8; ComponentLink1Description: LMV842 Datasheet; ComponentLink1URL: http://www.national.com/ds/LM/LMV842.pdf; ComponentLink2Description: LMV842 Web Page; ComponentLink2URL: http://www.national.com/pf/LM/LMV842.html; ComponentLink3Description: M08A Package Page; ComponentLink3URL: http://www.national.com/packaging/folders/m08a.html
footprint M08A_N (SOIC, 8-Leads, Body 4.9x3.9mm, Pitch 1.27mm, IPC Medium Density)
footprint M08A_L (SOIC, 8-Leads, Body 4.9x3.9mm, Pitch 1.27mm, IPC High Density)
footprint M08A_M (SOIC, 8-Leads, Body 4.9x3.9mm, Pitch 1.27mm, IPC Low Density)
simulation model LMV842 (SUBCKT)
pins on every part: 4 V- (power), 8 V+ (power)
part A pins: 1 OUTA (out), 2 INA- (in), 3 INA+ (in)
part B pins: 5 INB+ (in), 6 INB- (in), 7 OUTB (out)

## LMV842QMA/NOPB
designator U?
Dual CMOS Input, RRIO, Wide Supply Range Quad Operational Amplifiers, 8-pin Narrow SOIC, Pb-Free; PartNumber: LMV842QMA/NOPB; Manufacturer: National Semiconductor; PackageTopMarking: NSZXTT*LMV84*2QMA; PowerWise: N; Published: 1-Mar-2010; DatasheetVersion: Oct-2009; PackageVersion: revM, May-2009; PackageReference: M08A; Publisher: Altium Limited; PackageDescription: SOIC Narrow, 4.9 x 3.9 x 1.45mm, 8 Lead, 1.27mm Pitch; Supplier 1: Digi-Key; Supplier Part Number 1: LMV842QMA-ND; RoHS: Y; PinCount: 8; CompType: Amplifiers; Code_JEDEC: MS-012-AA; Code_IPC: SOIC127P600-8; ComponentLink1Description: LMV842 Datasheet; ComponentLink1URL: http://www.national.com/ds/LM/LMV842.pdf; ComponentLink2Description: LMV842 Web Page; ComponentLink2URL: http://www.national.com/pf/LM/LMV842.html; ComponentLink3Description: M08A Package Page; ComponentLink3URL: http://www.national.com/packaging/folders/m08a.html
footprint M08A_N (SOIC, 8-Leads, Body 4.9x3.9mm, Pitch 1.27mm, IPC Medium Density)
footprint M08A_L (SOIC, 8-Leads, Body 4.9x3.9mm, Pitch 1.27mm, IPC High Density)
footprint M08A_M (SOIC, 8-Leads, Body 4.9x3.9mm, Pitch 1.27mm, IPC Low Density)
simulation model LMV842 (SUBCKT)
pins on every part: 4 V- (power), 8 V+ (power)
part A pins: 1 OUTA (out), 2 INA- (in), 3 INA+ (in)
part B pins: 5 INB+ (in), 6 INB- (in), 7 OUTB (out)

## LMV842QMAX/NOPB
designator U?
Dual CMOS Input, RRIO, Wide Supply Range Quad Operational Amplifiers, 8-pin Narrow SOIC, Pb-Free; PartNumber: LMV842QMAX/NOPB; Manufacturer: National Semiconductor; PackageTopMarking: NSZXTT*LMV84*2QMA; PowerWise: N; Published: 1-Mar-2010; DatasheetVersion: Oct-2009; PackageVersion: revM, May-2009; PackageReference: M08A; Publisher: Altium Limited; PackageDescription: SOIC Narrow, 4.9 x 3.9 x 1.45mm, 8 Lead, 1.27mm Pitch; Supplier 1: Digi-Key; Supplier Part Number 1: LMV842QMAX-ND; RoHS: Y; PinCount: 8; CompType: Amplifiers; Code_JEDEC: MS-012-AA; Code_IPC: SOIC127P600-8; ComponentLink1Description: LMV842 Datasheet; ComponentLink1URL: http://www.national.com/ds/LM/LMV842.pdf; ComponentLink2Description: LMV842 Web Page; ComponentLink2URL: http://www.national.com/pf/LM/LMV842.html; ComponentLink3Description: M08A Package Page; ComponentLink3URL: http://www.national.com/packaging/folders/m08a.html
footprint M08A_N (SOIC, 8-Leads, Body 4.9x3.9mm, Pitch 1.27mm, IPC Medium Density)
footprint M08A_L (SOIC, 8-Leads, Body 4.9x3.9mm, Pitch 1.27mm, IPC High Density)
footprint M08A_M (SOIC, 8-Leads, Body 4.9x3.9mm, Pitch 1.27mm, IPC Low Density)
simulation model LMV842 (SUBCKT)
pins on every part: 4 V- (power), 8 V+ (power)
part A pins: 1 OUTA (out), 2 INA- (in), 3 INA+ (in)
part B pins: 5 INB+ (in), 6 INB- (in), 7 OUTB (out)

## LMV842QMM
designator U?
Dual CMOS Input, RRIO, Wide Supply Range Quad Operational Amplifiers, 8-pin Mini SOIC; PartNumber: LMV842QMM; Manufacturer: National Semiconductor; PackageTopMarking: ZXTT*AA7A; PowerWise: N; Published: 9-Oct-2009; DatasheetVersion: Oct-2009; PackageVersion: revF, Apr-2008; PackageReference: MUA08A; Publisher: Altium Limited; PackageDescription: MINI SOIC, .118 x .118 x .034in, 8 Lead, .0256in Pitch; RoHS: Y; PinCount: 8; CompType: Amplifiers; Code_JEDEC: MO-187-AA; ComponentLink1Description: LMV842 Datasheet; ComponentLink1URL: http://www.national.com/ds/LM/LMV842.pdf; ComponentLink2Description: LMV842 Web Page; ComponentLink2URL: http://www.national.com/pf/LM/LMV842.html; ComponentLink3Description: MUA08A Package Page; ComponentLink3URL: http://www.national.com/packaging/folders/mua08a.html
footprint MUA08A_N (TSOP, 8-Leads, Body 3x3mm, Pitch 0.65mm, IPC Medium Density)
footprint MUA08A_L (TSOP, 8-Leads, Body 3x3mm, Pitch 0.65mm, IPC High Density)
footprint MUA08A_M (TSOP, 8-Leads, Body 3x3mm, Pitch 0.65mm, IPC Low Density)
simulation model LMV842 (SUBCKT)
pins on every part: 4 V- (power), 8 V+ (power)
part A pins: 1 OUTA (out), 2 INA- (in), 3 INA+ (in)
part B pins: 5 INB+ (in), 6 INB- (in), 7 OUTB (out)

## LMV842QMM/NOPB
designator U?
Dual CMOS Input, RRIO, Wide Supply Range Quad Operational Amplifiers, 8-pin Mini SOIC, Pb-Free; PartNumber: LMV842QMM/NOPB; Manufacturer: National Semiconductor; PackageTopMarking: ZXTT*AA7A; PowerWise: N; Published: 1-Mar-2010; DatasheetVersion: Oct-2009; PackageVersion: revF, Apr-2008; PackageReference: MUA08A; Publisher: Altium Limited; PackageDescription: MINI SOIC, .118 x .118 x .034in, 8 Lead, .0256in Pitch; Supplier 1: Digi-Key; Supplier Part Number 1: LMV842QMMTR-ND; Supplier 2: Digi-Key; Supplier Part Number 2: LMV842QMMCT-ND; Supplier 3: Digi-Key; Supplier Part Number 3: LMV842QMMDKR-ND; RoHS: Y; PinCount: 8; CompType: Amplifiers; Code_JEDEC: MO-187-AA; ComponentLink1Description: LMV842 Datasheet; ComponentLink1URL: http://www.national.com/ds/LM/LMV842.pdf; ComponentLink2Description: LMV842 Web Page; ComponentLink2URL: http://www.national.com/pf/LM/LMV842.html; ComponentLink3Description: MUA08A Package Page; ComponentLink3URL: http://www.national.com/packaging/folders/mua08a.html
footprint MUA08A_N (TSOP, 8-Leads, Body 3x3mm, Pitch 0.65mm, IPC Medium Density)
footprint MUA08A_L (TSOP, 8-Leads, Body 3x3mm, Pitch 0.65mm, IPC High Density)
footprint MUA08A_M (TSOP, 8-Leads, Body 3x3mm, Pitch 0.65mm, IPC Low Density)
simulation model LMV842 (SUBCKT)
pins on every part: 4 V- (power), 8 V+ (power)
part A pins: 1 OUTA (out), 2 INA- (in), 3 INA+ (in)
part B pins: 5 INB+ (in), 6 INB- (in), 7 OUTB (out)

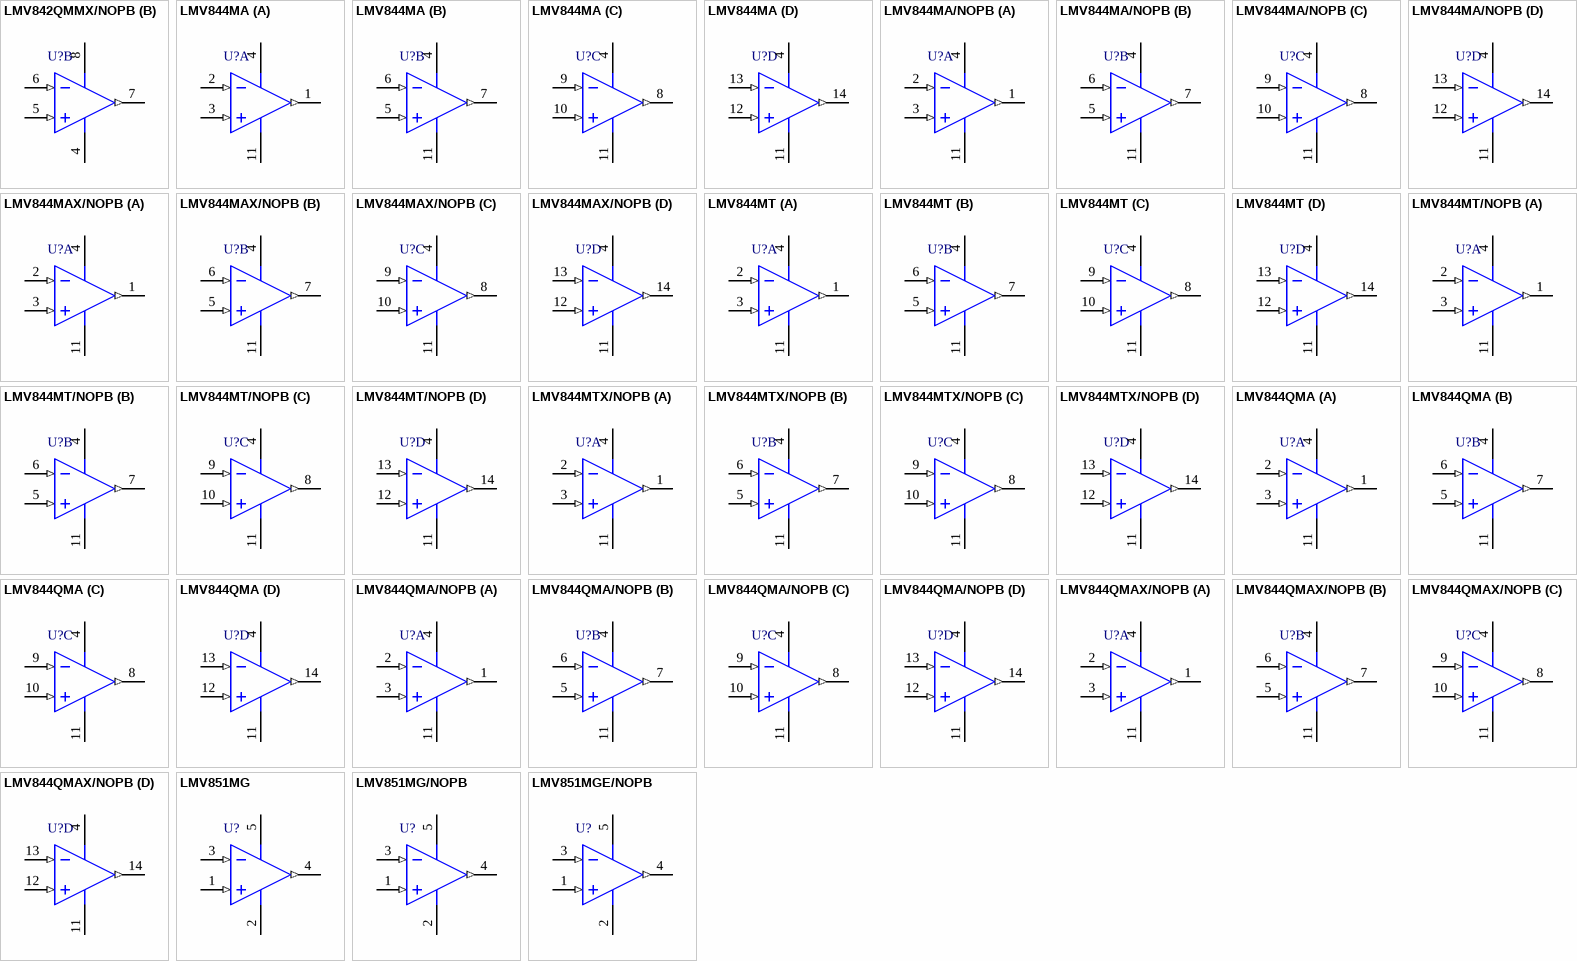
[diagram p75: symbols LMV842QMMX/NOPB to LMV851MGE/NOPB]

## LMV842QMMX/NOPB
designator U?
Dual CMOS Input, RRIO, Wide Supply Range Quad Operational Amplifiers, 8-pin Mini SOIC, Pb-Free; PartNumber: LMV842QMMX/NOPB; Manufacturer: National Semiconductor; PackageTopMarking: ZXTT*AA7A; PowerWise: N; Published: 1-Mar-2010; DatasheetVersion: Oct-2009; PackageVersion: revF, Apr-2008; PackageReference: MUA08A; Publisher: Altium Limited; PackageDescription: MINI SOIC, .118 x .118 x .034in, 8 Lead, .0256in Pitch; Supplier 1: Digi-Key; Supplier Part Number 1: LMV842QMMX-ND; RoHS: Y; PinCount: 8; CompType: Amplifiers; Code_JEDEC: MO-187-AA; ComponentLink1Description: LMV842 Datasheet; ComponentLink1URL: http://www.national.com/ds/LM/LMV842.pdf; ComponentLink2Description: LMV842 Web Page; ComponentLink2URL: http://www.national.com/pf/LM/LMV842.html; ComponentLink3Description: MUA08A Package Page; ComponentLink3URL: http://www.national.com/packaging/folders/mua08a.html
footprint MUA08A_N (TSOP, 8-Leads, Body 3x3mm, Pitch 0.65mm, IPC Medium Density)
footprint MUA08A_L (TSOP, 8-Leads, Body 3x3mm, Pitch 0.65mm, IPC High Density)
footprint MUA08A_M (TSOP, 8-Leads, Body 3x3mm, Pitch 0.65mm, IPC Low Density)
simulation model LMV842 (SUBCKT)
pins on every part: 4 V- (power), 8 V+ (power)
part A pins: 1 OUTA (out), 2 INA- (in), 3 INA+ (in)
part B pins: 5 INB+ (in), 6 INB- (in), 7 OUTB (out)

## LMV844MA
designator U?
Quad CMOS Input, RRIO, Wide Supply Range Quad Operational Amplifiers, 14-pin Narrow SOIC; PartNumber: LMV844MA; Manufacturer: National Semiconductor; PackageTopMarking: NSUZXYTT*LMV844MA; PowerWise: N; Published: 4-Dec-2008; LatestRevisionDate: 13-Jan-2009; LatestRevisionNote: Sim Model Added.; DatasheetVersion: Oct-2009; PackageVersion: revJ, Jan-1996; PackageReference: M14A; Publisher: Altium Limited; PackageDescription: Molded Package S.O., .150in Wide, 14 Lead; RoHS: Y; PinCount: 14; CompType: Amplifiers; Code_JEDEC: MS-012AB; Code_IPC: SOIC127P600-14; ComponentLink1Description: LMV844 Datasheet; ComponentLink1URL: http://www.national.com/ds/LM/LMV844.pdf; ComponentLink2Description: LMV844 Web Page; ComponentLink2URL: http://www.national.com/pf/LM/LMV844.html; ComponentLink3Description: M14A Package Page; ComponentLink3URL: http://www.national.com/packaging/folders/m14a.html
footprint M14A_N (SOIC, 14-Leads, Body 8.6x3.9mm, Pitch 1.27mm, IPC Medium Density)
footprint M14A_L (SOIC, 14-Leads, Body 8.6x3.9mm, Pitch 1.27mm, IPC High Density)
footprint M14A_M (SOIC, 14-Leads, Body 8.6x3.9mm, Pitch 1.27mm, IPC Low Density)
simulation model LMV844 (SUBCKT)
pins on every part: 4 V+ (power), 11 V- (power)
part A pins: 1 OUTA (out), 2 INA- (in), 3 INA+ (in)
part B pins: 5 INB+ (in), 6 INB- (in), 7 OUTB (out)
part C pins: 8 OUTC (out), 9 INC- (in), 10 INC+ (in)
part D pins: 12 IND+ (in), 13 IND- (in), 14 OUTD (out)

## LMV844MA/NOPB
designator U?
Quad CMOS Input, RRIO, Wide Supply Range Quad Operational Amplifiers, 14-pin Narrow SOIC, Pb-Free; PartNumber: LMV844MA/NOPB; Manufacturer: National Semiconductor; PackageTopMarking: NSUZXYTTE#*LMV844MA; PowerWise: N; Published: 1-Mar-2010; DatasheetVersion: Oct-2009; PackageVersion: revJ, Jan-1996; PackageReference: M14A; Publisher: Altium Limited; PackageDescription: Molded Package S.O., .150in Wide, 14 Lead; Supplier 1: Digi-Key; Supplier Part Number 1: LMV844MA-ND; Supplier 2: Farnell; Supplier Part Number 2: 1694608; RoHS: Y; PinCount: 14; CompType: Amplifiers; Code_JEDEC: MS-012AB; Code_IPC: SOIC127P600-14; ComponentLink1Description: LMV844 Datasheet; ComponentLink1URL: http://www.national.com/ds/LM/LMV844.pdf; ComponentLink2Description: LMV844 Web Page; ComponentLink2URL: http://www.national.com/pf/LM/LMV844.html; ComponentLink3Description: M14A Package Page; ComponentLink3URL: http://www.national.com/packaging/folders/m14a.html
footprint M14A_N (SOIC, 14-Leads, Body 8.6x3.9mm, Pitch 1.27mm, IPC Medium Density)
footprint M14A_L (SOIC, 14-Leads, Body 8.6x3.9mm, Pitch 1.27mm, IPC High Density)
footprint M14A_M (SOIC, 14-Leads, Body 8.6x3.9mm, Pitch 1.27mm, IPC Low Density)
simulation model LMV844 (SUBCKT)
pins on every part: 4 V+ (power), 11 V- (power)
part A pins: 1 OUTA (out), 2 INA- (in), 3 INA+ (in)
part B pins: 5 INB+ (in), 6 INB- (in), 7 OUTB (out)
part C pins: 8 OUTC (out), 9 INC- (in), 10 INC+ (in)
part D pins: 12 IND+ (in), 13 IND- (in), 14 OUTD (out)

## LMV844MAX/NOPB
designator U?
Quad CMOS Input, RRIO, Wide Supply Range Quad Operational Amplifiers, 14-pin Narrow SOIC, Pb-Free; PartNumber: LMV844MAX/NOPB; Manufacturer: National Semiconductor; PackageTopMarking: NSUZXYTTE#*LMV844MA; PowerWise: N; Published: 1-Mar-2010; DatasheetVersion: Oct-2009; PackageVersion: revJ, Jan-1996; PackageReference: M14A; Publisher: Altium Limited; PackageDescription: Molded Package S.O., .150in Wide, 14 Lead; Supplier 1: Digi-Key; Supplier Part Number 1: LMV844MAX-ND; RoHS: Y; PinCount: 14; CompType: Amplifiers; Code_JEDEC: MS-012AB; Code_IPC: SOIC127P600-14; ComponentLink1Description: LMV844 Datasheet; ComponentLink1URL: http://www.national.com/ds/LM/LMV844.pdf; ComponentLink2Description: LMV844 Web Page; ComponentLink2URL: http://www.national.com/pf/LM/LMV844.html; ComponentLink3Description: M14A Package Page; ComponentLink3URL: http://www.national.com/packaging/folders/m14a.html
footprint M14A_N (SOIC, 14-Leads, Body 8.6x3.9mm, Pitch 1.27mm, IPC Medium Density)
footprint M14A_L (SOIC, 14-Leads, Body 8.6x3.9mm, Pitch 1.27mm, IPC High Density)
footprint M14A_M (SOIC, 14-Leads, Body 8.6x3.9mm, Pitch 1.27mm, IPC Low Density)
simulation model LMV844 (SUBCKT)
pins on every part: 4 V+ (power), 11 V- (power)
part A pins: 1 OUTA (out), 2 INA- (in), 3 INA+ (in)
part B pins: 5 INB+ (in), 6 INB- (in), 7 OUTB (out)
part C pins: 8 OUTC (out), 9 INC- (in), 10 INC+ (in)
part D pins: 12 IND+ (in), 13 IND- (in), 14 OUTD (out)

## LMV844MT
designator U?
Quad CMOS Input, RRIO, Wide Supply Range Quad Operational Amplifiers, 14-pin TSSOP; PartNumber: LMV844MT; Manufacturer: National Semiconductor; PackageTopMarking: NSUZXYTT*LMV844*MT; PowerWise: N; Published: 4-Dec-2008; LatestRevisionDate: 13-Jan-2009; LatestRevisionNote: Sim Model Added.; DatasheetVersion: Oct-2009; PackageVersion: revD, Jun-2003; PackageReference: MTC14; Publisher: Altium Limited; PackageDescription: Molded TSSOP, JEDEC, 5 x 4.4 x 0.9mm Body, 14 Lead, 0.65mm Pitch; Supplier 1: Farnell; Supplier Part Number 1: 1342340; RoHS: Y; PinCount: 14; CompType: Amplifiers; Code_JEDEC: MO-153-AB-1; ComponentLink1Description: LMV844 Datasheet; ComponentLink1URL: http://www.national.com/ds/LM/LMV844.pdf; ComponentLink2Description: LMV844 Web Page; ComponentLink2URL: http://www.national.com/pf/LM/LMV844.html; ComponentLink3Description: MTC14 Package Page; ComponentLink3URL: http://www.national.com/packaging/folders/mtc14.html
footprint MTC14_N (TSOP, 14-Leads, Body 5x4.4mm, Pitch 0.65mm, IPC Medium Density)
footprint MTC14_L (TSOP, 14-Leads, Body 5x4.4mm, Pitch 0.65mm, IPC High Density)
footprint MTC14_M (TSOP, 14-Leads, Body 5x4.4mm, Pitch 0.65mm, IPC Low Density)
simulation model LMV844 (SUBCKT)
pins on every part: 4 V+ (power), 11 V- (power)
part A pins: 1 OUTA (out), 2 INA- (in), 3 INA+ (in)
part B pins: 5 INB+ (in), 6 INB- (in), 7 OUTB (out)
part C pins: 8 OUTC (out), 9 INC- (in), 10 INC+ (in)
part D pins: 12 IND+ (in), 13 IND- (in), 14 OUTD (out)

## LMV844MT/NOPB
designator U?
Quad CMOS Input, RRIO, Wide Supply Range Quad Operational Amplifiers, 14-pin TSSOP, Pb-Free; PartNumber: LMV844MT/NOPB; Manufacturer: National Semiconductor; PackageTopMarking: NSUZXYTT*LMV844*MT; PowerWise: N; Published: 1-Mar-2010; DatasheetVersion: Oct-2009; PackageVersion: revD, Jun-2003; PackageReference: MTC14; Publisher: Altium Limited; PackageDescription: Molded TSSOP, JEDEC, 5 x 4.4 x 0.9mm Body, 14 Lead, 0.65mm Pitch; Supplier 1: Digi-Key; Supplier Part Number 1: LMV844MT-ND; Supplier 2: Farnell; Supplier Part Number 2: 1694077; RoHS: Y; PinCount: 14; CompType: Amplifiers; Code_JEDEC: MO-153-AB-1; ComponentLink1Description: LMV844 Datasheet; ComponentLink1URL: http://www.national.com/ds/LM/LMV844.pdf; ComponentLink2Description: LMV844 Web Page; ComponentLink2URL: http://www.national.com/pf/LM/LMV844.html; ComponentLink3Description: MTC14 Package Page; ComponentLink3URL: http://www.national.com/packaging/folders/mtc14.html
footprint MTC14_N (TSOP, 14-Leads, Body 5x4.4mm, Pitch 0.65mm, IPC Medium Density)
footprint MTC14_L (TSOP, 14-Leads, Body 5x4.4mm, Pitch 0.65mm, IPC High Density)
footprint MTC14_M (TSOP, 14-Leads, Body 5x4.4mm, Pitch 0.65mm, IPC Low Density)
simulation model LMV844 (SUBCKT)
pins on every part: 4 V+ (power), 11 V- (power)
part A pins: 1 OUTA (out), 2 INA- (in), 3 INA+ (in)
part B pins: 5 INB+ (in), 6 INB- (in), 7 OUTB (out)
part C pins: 8 OUTC (out), 9 INC- (in), 10 INC+ (in)
part D pins: 12 IND+ (in), 13 IND- (in), 14 OUTD (out)

## LMV844MTX/NOPB
designator U?
Quad CMOS Input, RRIO, Wide Supply Range Quad Operational Amplifiers, 14-pin TSSOP, Pb-Free; PartNumber: LMV844MTX/NOPB; Manufacturer: National Semiconductor; PackageTopMarking: NSUZXYTT*LMV844*MT; PowerWise: N; Published: 1-Mar-2010; DatasheetVersion: Oct-2009; PackageVersion: revD, Jun-2003; PackageReference: MTC14; Publisher: Altium Limited; PackageDescription: Molded TSSOP, JEDEC, 5 x 4.4 x 0.9mm Body, 14 Lead, 0.65mm Pitch; Supplier 1: Digi-Key; Supplier Part Number 1: LMV844MTX-ND; RoHS: Y; PinCount: 14; CompType: Amplifiers; Code_JEDEC: MO-153-AB-1; ComponentLink1Description: LMV844 Datasheet; ComponentLink1URL: http://www.national.com/ds/LM/LMV844.pdf; ComponentLink2Description: LMV844 Web Page; ComponentLink2URL: http://www.national.com/pf/LM/LMV844.html; ComponentLink3Description: MTC14 Package Page; ComponentLink3URL: http://www.national.com/packaging/folders/mtc14.html
footprint MTC14_N (TSOP, 14-Leads, Body 5x4.4mm, Pitch 0.65mm, IPC Medium Density)
footprint MTC14_L (TSOP, 14-Leads, Body 5x4.4mm, Pitch 0.65mm, IPC High Density)
footprint MTC14_M (TSOP, 14-Leads, Body 5x4.4mm, Pitch 0.65mm, IPC Low Density)
simulation model LMV844 (SUBCKT)
pins on every part: 4 V+ (power), 11 V- (power)
part A pins: 1 OUTA (out), 2 INA- (in), 3 INA+ (in)
part B pins: 5 INB+ (in), 6 INB- (in), 7 OUTB (out)
part C pins: 8 OUTC (out), 9 INC- (in), 10 INC+ (in)
part D pins: 12 IND+ (in), 13 IND- (in), 14 OUTD (out)

## LMV844QMA
designator U?
Quad CMOS Input, RRIO, Wide Supply Range Quad Operational Amplifiers, 14-pin Narrow SOIC; PartNumber: LMV844QMA; Manufacturer: National Semiconductor; PackageTopMarking: NSUZXYTT*LMV844*QMA; PowerWise: N; Published: 9-Oct-2009; DatasheetVersion: Oct-2009; PackageVersion: revJ, Jan-1996; PackageReference: M14A; Publisher: Altium Limited; PackageDescription: Molded Package S.O., .150in Wide, 14 Lead; RoHS: Y; PinCount: 14; CompType: Amplifiers; Code_JEDEC: MS-012AB; Code_IPC: SOIC127P600-14; ComponentLink1Description: LMV844 Datasheet; ComponentLink1URL: http://www.national.com/ds/LM/LMV844.pdf; ComponentLink2Description: LMV844 Web Page; ComponentLink2URL: http://www.national.com/pf/LM/LMV844.html; ComponentLink3Description: M14A Package Page; ComponentLink3URL: http://www.national.com/packaging/folders/m14a.html
footprint M14A_N (SOIC, 14-Leads, Body 8.6x3.9mm, Pitch 1.27mm, IPC Medium Density)
footprint M14A_L (SOIC, 14-Leads, Body 8.6x3.9mm, Pitch 1.27mm, IPC High Density)
footprint M14A_M (SOIC, 14-Leads, Body 8.6x3.9mm, Pitch 1.27mm, IPC Low Density)
simulation model LMV844 (SUBCKT)
pins on every part: 4 V+ (power), 11 V- (power)
part A pins: 1 OUTA (out), 2 INA- (in), 3 INA+ (in)
part B pins: 5 INB+ (in), 6 INB- (in), 7 OUTB (out)
part C pins: 8 OUTC (out), 9 INC- (in), 10 INC+ (in)
part D pins: 12 IND+ (in), 13 IND- (in), 14 OUTD (out)